# EAGLE library part MIC5528 (library RocketControlBoard)
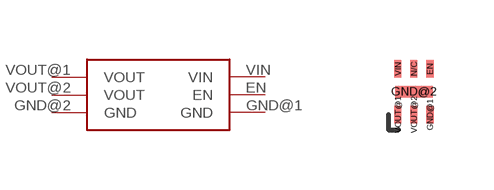
[diagram p16: symbol with the pads of MIC5528; footprint MIC5528]

Designator prefix -

## MIC5528 (DESC: IC REG LDO 3.3V 0.5A 6TDFN; DIGIKEY#: MIC5528-3.3YMT-TR; MANF: Microchip Technology; MANF#: MIC5528-3.3YMT-TR)  [MIC5528]
EN  EN
GND@1  GND
GND@2  GND
VIN  VIN
VOUT@1  VOUT
VOUT@2  VOUT

## Footprint MIC5528 (pad centres in mm)
smd 0.18 x 0.45: EN 0.4,0.575; GND@1 0.4,-0.575; N/C 0,0.575; VIN -0.4,0.575; VOUT@1 -0.4,-0.575; VOUT@2 0,-0.575
smd 0.94 x 0.3: GND@2 0,0